# EAGLE library part ISO3082 (library My Library)
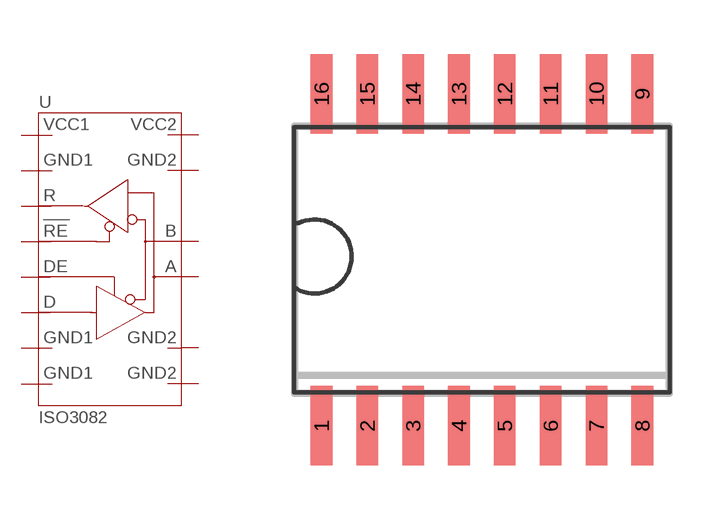
[diagram p29: symbol with the pads of SO16W; footprint SO16W]

Designator prefix -

## ISO3082  [SO16W]
1  VCC1
2  GND1A
3  RO  out
4  RE/  in
5  DE  in
6  DI  in
7  GND1B
8  GND1C
9  GND2C
10  GND2B
12  A
13  B  pas
15  GND2A
16  VCC2

## Footprint SO16W (pad centres in mm)
smd 0.6 x 2.2: 1 -4.445,-4.6; 2 -3.175,-4.6; 3 -1.905,-4.6; 4 -0.635,-4.6; 5 0.635,-4.6; 6 1.905,-4.6; 7 3.175,-4.6; 8 4.445,-4.6; 9 4.445,4.6; 10 3.175,4.6; 11 1.905,4.6; 12 0.635,4.6; 13 -0.635,4.6; 14 -1.905,4.6; 15 -3.175,4.6; 16 -4.445,4.6